# Altium schematic symbol library SW.SchLib: 5 symbols
Pins are listed as number, name and electrical type; pins without a type are passive.

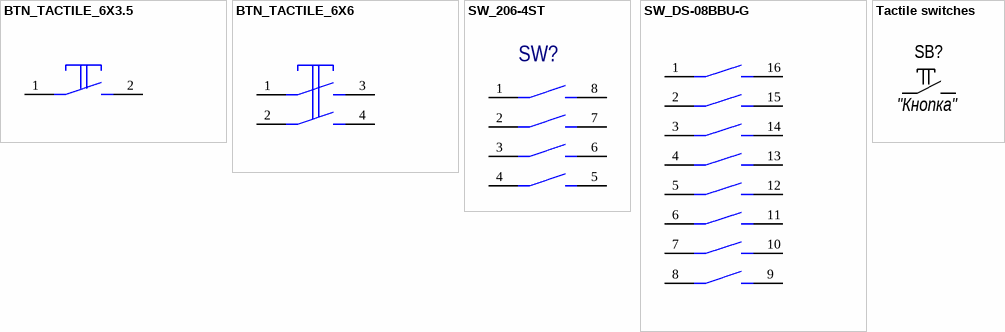
[diagram p0: symbols BTN_TACTILE_6X3.5 to Tactile switches]

## BTN_TACTILE_6X3.5
designator SB?
SWITCH TACTILE SPST-NO 0.05A 24V; Manufacturer Part Number: 1825966-1; Manufacturer: TE Connectivity ALCOSWITCH Switches; TH: 1
footprint BTN_TACTILE_6X3.5
pins: 1, 2

## BTN_TACTILE_6X6
designator SB?
SWITCH TACTILE SPST-NO 0.05A 24V; Manufacturer: TE Connectivity Alcoswitch; Manufacturer Part Number: 1825910-6; TH: 1
footprint BTN_TACTILE_6X6 (SWITCH TACTILE SPST-NO 0.05A 24V)
pins: 1, 2, 3, 4

## SW_206-4ST
designator SW?
SWITCH SLIDE DIP SPST 50MA 24V 4POS; Manufacturer Part Number: 206-4ST; Manufacturer: CTS Electrocomponents; TH: 1
footprint SW_206-4ST
pins: 1, 2, 3, 4, 5, 6, 7, 8

## SW_DS-08BBU-G
designator SW?
SWITCH SLIDE DIP SPST 50MA 24V 8POS; Manufacturer Part Number: DS-08BBU-G; Manufacturer: Switronic Industrial; TH: 1
footprint SW_DS-08BBU-G
pins: 1, 2, 3, 4, 5, 6, 7, 8, 9, 10, 11, 12, 13, 14, 15, 16

## Tactile switches
designator SB?, comment "Кнопка"
6x6 mm; Manufacturer: *; Model: *; HelpURL: *; ComponentKind: *
footprint BUT: 6x6 (Leaded Tactile Button 6x6)
footprint BUT: 6x6 mm (R)
footprint BUT: 6x6 SMD (Leaded Tactile Button 6x6)
footprint BUT: SKQGADE010
pins: 1, 2